# EAGLE library part BUK9K20-80E (library Bauteile)
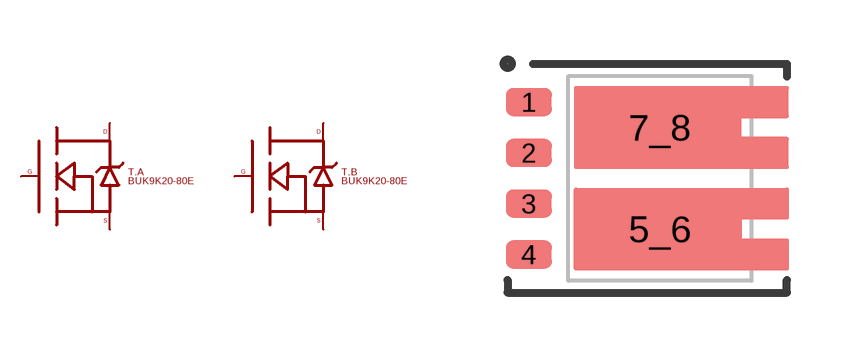
[diagram p132: symbol with the pads of SO8_PP_DUAL; footprint SO8_PP_DUAL]

Designator prefix T; gates .A=MOSFET_N_WITH_BODYDIODE .B=MOSFET_N_WITH_BODYDIODE

## BUK9K20-80E  [SO8_PP_DUAL]
1  .A:S
2  .A:G
3  .B:S
4  .B:G
5_6  .B:D
7_8  .A:D

## Footprint SO8_PP_DUAL (pad centres in mm)
smd 1.15 x 0.7: 1 -3.275,1.905; 2 -3.275,0.635; 3 -3.275,-0.635; 4 -3.275,-1.905
smd 1.5 x 1.5: 5_6 0,-1.27; 7_8 0,1.27